# Altium schematic symbol library MIC5219.SchLib: 9 symbols
Pins are listed as number, name and electrical type; pins without a type are passive.

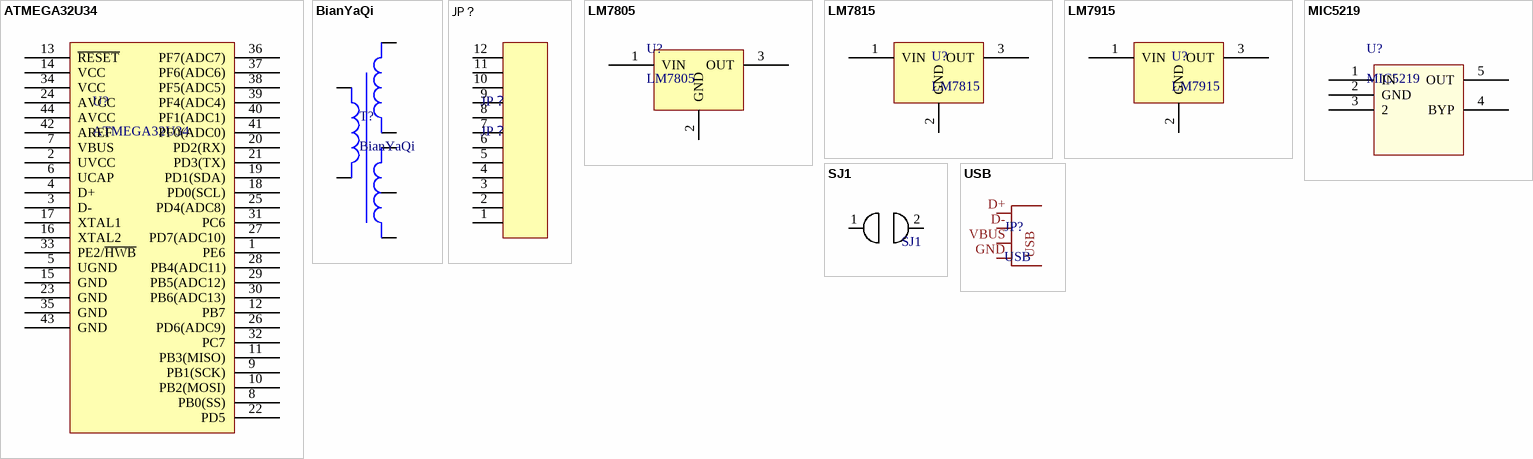
[diagram p0: symbols ATMEGA32U34 to USB]

## ATMEGA32U34
designator U?
pins: 1 PE6, 2 UVCC, 3 D-, 4 D+, 5 UGND, 6 UCAP, 7 VBUS, 8 PB0(SS), 9 PB1(SCK), 10 PB2(MOSI), 11 PB3(MISO), 12 PB7, 13 ~{RESET}, 14 VCC, 15 GND, 16 XTAL2, 17 XTAL1, 18 PD0(SCL), 19 PD1(SDA), 20 PD2(RX), 21 PD3(TX), 22 PD5, 23 GND, 24 AVCC, 25 PD4(ADC8), 26 PD6(ADC9), 27 PD7(ADC10), 28 PB4(ADC11), 29 PB5(ADC12), 30 PB6(ADC13), 31 PC6, 32 PC7, 33 PE2/~{HWB}, 34 VCC, 35 GND, 36 PF7(ADC7), 37 PF6(ADC6), 38 PF5(ADC5), 39 PF4(ADC4), 40 PF1(ADC1), 41 PF0(ADC0), 42 AREF, 43 GND, 44 AVCC

## BianYaQi
designator T?
pins: 1 Pri+, 2 Pri-, 3 Sec1+, 4 Sec1-, 5 Sec2+, 6, 7 Sec2-

## JP？
designator JP？
pins: 1, 2, 3, 4, 5, 6, 7, 8, 9, 10, 11, 12

## LM7805
designator U?
pins: 1 VIN, 2 GND, 3 OUT

## LM7815
designator U?
pins: 1 VIN, 2 GND, 3 OUT

## LM7915
designator U?
pins: 1 VIN, 2 GND, 3 OUT

## MIC5219
designator U?
pins: 1 IN, 2 GND, 3 2, 4 BYP, 5 OUT

## SJ1
designator ?
pins: 1, 2

## USB
designator JP?
pins: D+, D-, GND, VBUS